# EAGLE library part 62201421121 (library Header_R_ESP32)
CONN HEADER VERT 14POS 1.27MM Manufacturer's datasheet <https://katalog.we-online.com/em/datasheet/62201421121.pdf>
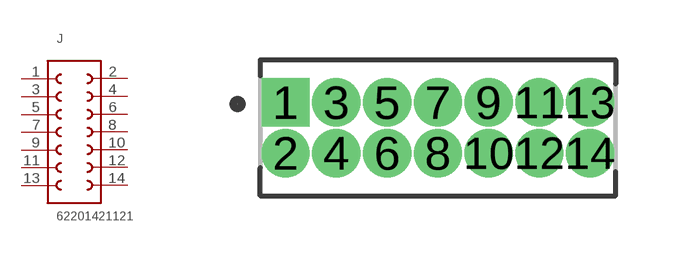
[diagram p39: symbol with the pads of 62201421121; footprint 62201421121]

Designator prefix J

## 62201421121 (CREATED_BY: PCBLayout.com; DIGIKEY_PART_NUMBER: 732-5375-ND; MANUFACTURER: Wurth Electronics Inc.; MPN: 62201421121)  [62201421121]
1  1  pas
2  2  pas
3  3  pas
4  4  pas
5  5  pas
6  6  pas
7  7  pas
8  8  pas
9  9  pas
10  10  pas
11  11  pas
12  12  pas
13  13  pas
14  14  pas

## Footprint 62201421121 (pad centres in mm)
drill 0.7 square: 1 -3.81,0.635
drill 0.7: 2 -3.81,-0.635; 3 -2.54,0.635; 4 -2.54,-0.635; 5 -1.27,0.635; 6 -1.27,-0.635; 7 0,0.635; 8 0,-0.635; 9 1.27,0.635; 10 1.27,-0.635; 11 2.54,0.635; 12 2.54,-0.635; 13 3.81,0.635; 14 3.81,-0.635